# Altium footprint library Altera.PCBLIB: 3 footprints
Each footprint in its own frame and in the unit in brackets; x right, y up, seen from the top. Pads: shape width x height; smd on the part's side, far side on the other; paste and mask are expansions set on the pad; w line width, h text height; cw(c..) or ccw(c..) is an arc to the next point about the centre after c.
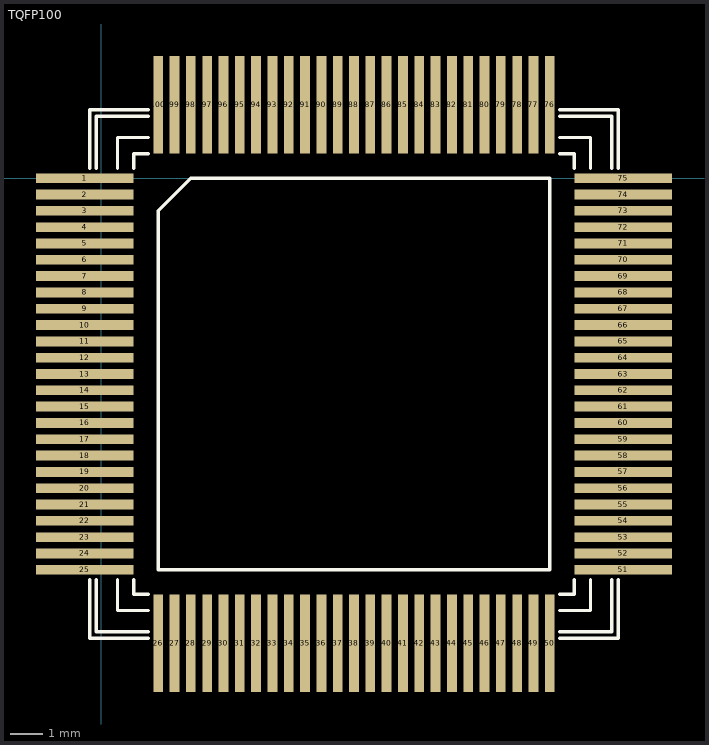
[diagram p0: the footprints below, top view; thin cyan lines are the x and y axes]

## PCBComponent_1 [mm]

## PCBComponent_1 - duplicate [mm]

## TQFP100 [mm]
height 1.27
pads (100):
  rect 3x0.3 smd: 1(-0.5,0) 2(-0.5,-0.5) 3(-0.5,-1) 4(-0.5,-1.5) 5(-0.5,-2) 6(-0.5,-2.5) 7(-0.5,-3) 8(-0.5,-3.5) 9(-0.5,-4) 10(-0.5,-4.5) 11(-0.5,-5) 12(-0.5,-5.5) 13(-0.5,-6) 14(-0.5,-6.5) 15(-0.5,-7) 16(-0.5,-7.5) 17(-0.5,-8) 18(-0.5,-8.5) 19(-0.5,-9) 20(-0.5,-9.5) 21(-0.5,-10) 22(-0.5,-10.5) 23(-0.5,-11) 24(-0.5,-11.5) 25(-0.5,-12) 51(16,-12) 52(16,-11.5) 53(16,-11) 54(16,-10.5) 55(16,-10) 56(16,-9.5) 57(16,-9) 58(16,-8.5) 59(16,-8) 60(16,-7.5) 61(16,-7) 62(16,-6.5) 63(16,-6) 64(16,-5.5) 65(16,-5) 66(16,-4.5) 67(16,-4) 68(16,-3.5) 69(16,-3) 70(16,-2.5) 71(16,-2) 72(16,-1.5) 73(16,-1) 74(16,-0.5) 75(16,0)
  rect 0.3x3 smd: 26(1.75,-14.25) 27(2.25,-14.25) 28(2.75,-14.25) 29(3.25,-14.25) 30(3.75,-14.25) 31(4.25,-14.25) 32(4.75,-14.25) 33(5.25,-14.25) 34(5.75,-14.25) 35(6.25,-14.25) 36(6.75,-14.25) 37(7.25,-14.25) 38(7.75,-14.25) 39(8.25,-14.25) 40(8.75,-14.25) 41(9.25,-14.25) 42(9.75,-14.25) 43(10.25,-14.25) 44(10.75,-14.25) 45(11.25,-14.25) 46(11.75,-14.25) 47(12.25,-14.25) 48(12.75,-14.25) 49(13.25,-14.25) 50(13.75,-14.25) 76(13.75,2.25) 77(13.25,2.25) 78(12.75,2.25) 79(12.25,2.25) 80(11.75,2.25) 81(11.25,2.25) 82(10.75,2.25) 83(10.25,2.25) 84(9.75,2.25) 85(9.25,2.25) 86(8.75,2.25) 87(8.25,2.25) 88(7.75,2.25) 89(7.25,2.25) 90(6.75,2.25) 91(6.25,2.25) 92(5.75,2.25) 93(5.25,2.25) 94(4.75,2.25) 95(4.25,2.25) 96(3.75,2.25) 97(3.25,2.25) 98(2.75,2.25) 99(2.25,2.25) 100(1.75,2.25)
Top Overlay:
  lines w0.1: -0.35,-12.3 -0.35,-14.1 1.45,-14.1 ; -0.35,0.3 -0.35,2.1 1.45,2.1 ; -0.15,-12.3 -0.15,-13.9 1.45,-13.9 ; -0.15,0.3 -0.15,1.9 1.45,1.9 ; 0.5,-12.3 0.5,-13.25 1.45,-13.25 ; 0.5,0.3 0.5,1.25 1.45,1.25 ; 1,-12.3 1,-12.75 1.45,-12.75 ; 1,0.3 1,0.75 1.45,0.75 ; 14.05,-14.1 15.85,-14.1 15.85,-12.3 ; 14.05,-13.9 15.65,-13.9 15.65,-12.3 ; 14.05,-13.25 15,-13.25 15,-12.3 ; 14.05,-12.75 14.5,-12.75 14.5,-12.3 ; 14.05,0.75 14.5,0.75 14.5,0.3 ; 14.05,1.25 15,1.25 15,0.3 ; 14.05,1.9 15.65,1.9 15.65,0.3 ; 14.05,2.1 15.85,2.1 15.85,0.3 ; 1.75,-12 1.75,-1 2.75,0 13.75,0 13.75,-12 1.75,-12